# Altium schematic symbol library RCJ-017 .SchLib: 1 symbol
Pins are listed as number, name and electrical type; pins without a type are passive.

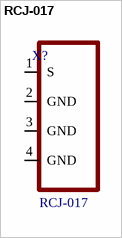
[diagram p0: symbol RCJ-017]

## RCJ-017
designator X?  (value not drawn)
pins: 1 S, 2 GND, 3 GND, 4 GND